# EAGLE library part 6111 (library submini tubes)
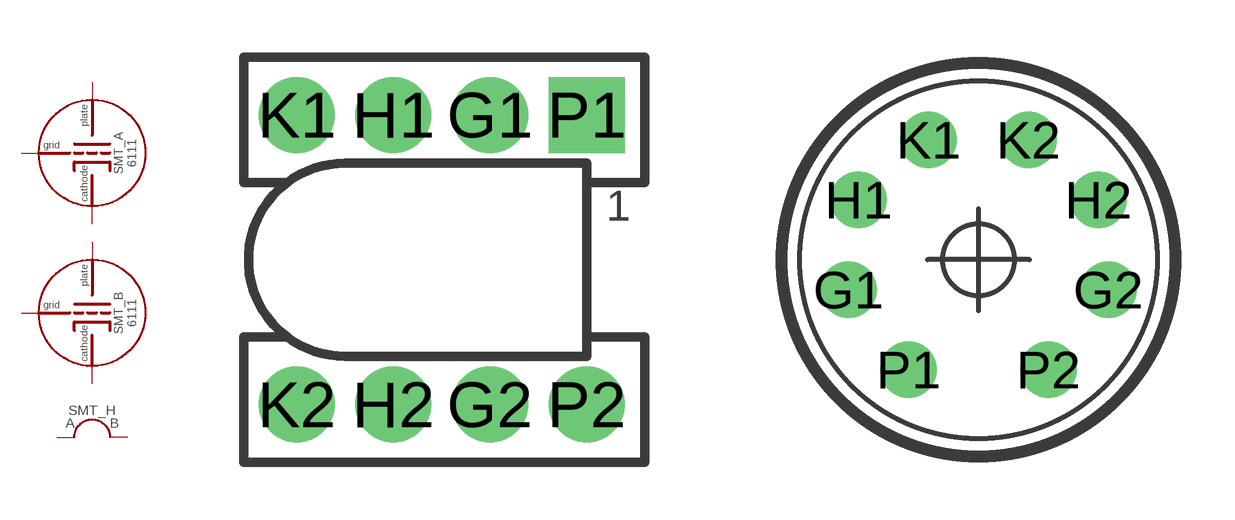
[diagram p0: symbol with the pads of 6111; footprints 6111, TUBE2]

Designator prefix SMT_; gates A=SUBMINI B=SUBMINI H=HEATERS

## 6111  [6111]
G1  A:GRID
G2  B:GRID
H1  H:3
H2  H:6
K1  A:CATHODE
K2  B:CATHODE
P1  A:PLATE
P2  B:PLATE

## 6111ALT  [TUBE2]
Pads as for 6111

## Footprint 6111 (pad centres in mm)
drill 1 pad 2: G1 1.27,3.81; G2 1.27,-3.81; H1 -1.27,3.81; H2 -1.27,-3.81; K1 -3.81,3.81; K2 -3.81,-3.81; P2 3.81,-3.81
drill 1 pad 2 square: P1 3.81,3.81

## Footprint TUBE2 (pad centres in mm)
drill 0.9: G1 -3.25,-0.75; G2 3.25,-0.75; H1 -3,1.5; H2 3,1.5; K1 -1.25,3; K2 1.25,3; P1 -1.75,-2.75; P2 1.75,-2.75